# Altium integrated library TI Amplifiers and Linear Operational Amplifier Precision Amplifier Part One.IntLib: 2299 symbols (part 2 of 85)
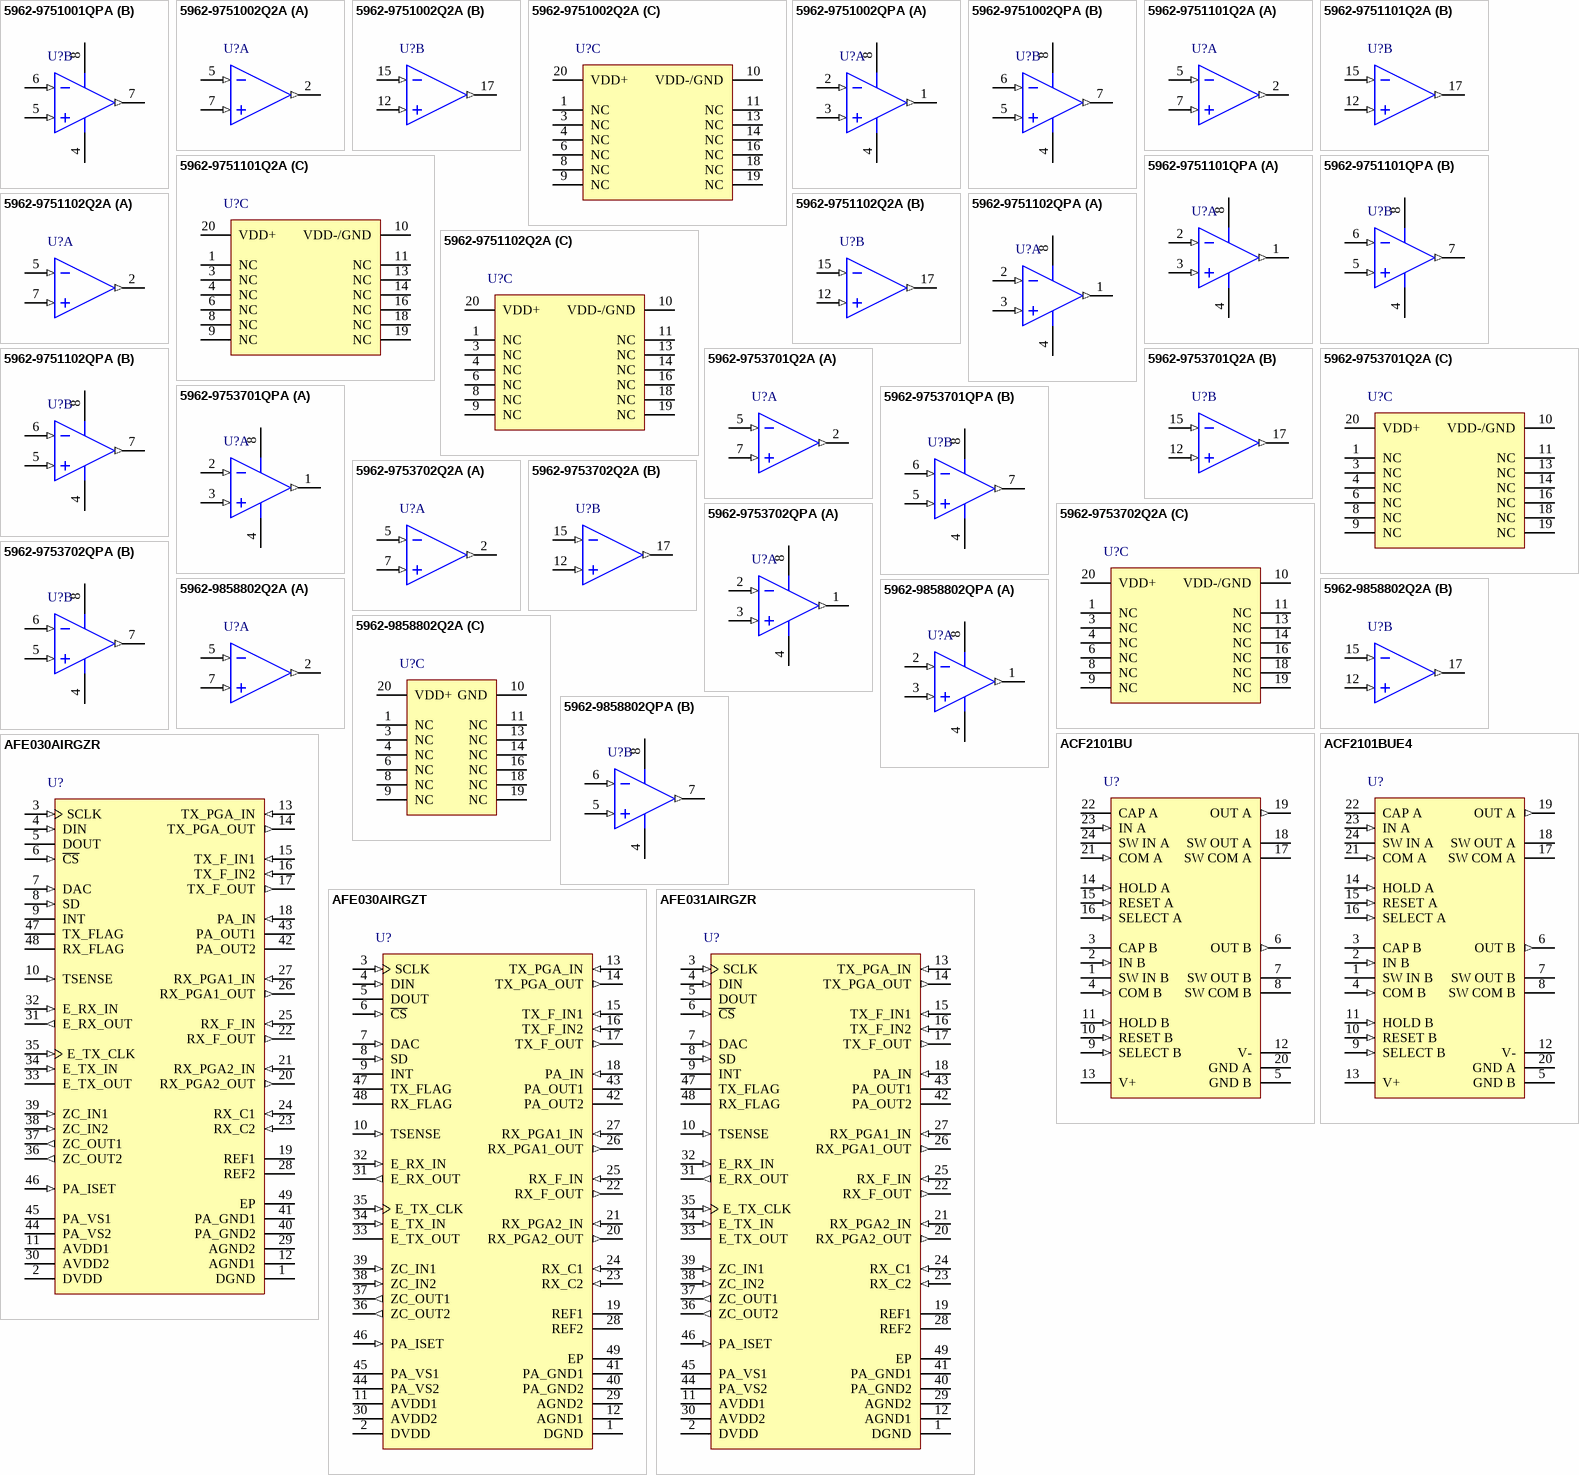
[diagram p125: symbols 5962-9751001QPA to AFE031AIRGZR]

## ACF2101BUE4
designator U?
Low Noise, Dual Switched Integrator, 14.5 to 36 V, -40 to 125 degC, 24-pin SOIC (DW24), Green (RoHS & no Sb/Br); Manufacturer: Texas Instruments; PartNumber: ACF2101BUE4; GBW(Typ)(MHz): 2; Iq per channel(Max)(mA): 15; Offset Drift(Typ)(uV/C): 1; Packing: TUBE; Rating: Catalog; Slew Rate(Typ)(V/us): 3; Sub Family: Precision Amplifier; Total Supply Voltage(Max)(+5V is 5, +/-5V is 10): 36; Total Supply Voltage(Min)(+5V is 5, +/-5V is 10): 14.5; DatasheetVersion: SBFS003; PackageVersion: 4040000-5/G, 01/2011; PackageReference: DW24; PackageDescription: 24-Pin Plastic Small Outline, Body 15.4 x 7.5 mm, Pitch 1.27 mm; Supplier 1: Digi-Key; Supplier Part Number 1: ACF2101BUE4-ND; Supplier 2: Farnell; Supplier Part Number 2: 1206857; Supplier 3: Newark; Supplier Part Number 3: 96K6098; Supplier 4: Mouser; Supplier Part Number 4: 595-ACF2101BUE4; Eco-Plan: Green (RoHS & no Sb/Br); Number of Channels: 2; Vio (25C)(Max)(mV): 2; Mounting Technology: Surface Mount; Code_JEDEC: MS-013; ComponentLink1Description: Manufacturer URL; ComponentLink1URL: http://www.ti.com/; ComponentLink2Description: Datasheet; ComponentLink2URL: http://www.ti.com/lit/ds/symlink/acf2101.pdf; ComponentLink3Description: Package Specification; ComponentLink3URL: http://www.ti.com/litv/pdf/mpds174a
footprint TI-DW24_N (SOIC, 24-Leads, Body 15.4x7.5mm, Pitch 1.27mm, IPC Medium Density)
footprint TI-DW24_L (SOIC, 24-Leads, Body 15.4x7.5mm, Pitch 1.27mm, IPC High Density)
footprint TI-DW24_M (SOIC, 24-Leads, Body 15.4x7.5mm, Pitch 1.27mm, IPC Low Density)
pins: 1 SW IN B "B Switch-In", 2 IN B (in) "B In", 3 CAP B "B  Cap", 4 COM B (in) "B Common", 5 GND B (power) "B Ground", 6 OUT B (out) "B Out", 7 SW OUT B "B Switch-Out", 8 SW COM B "B Switch-Common", 9 SELECT B (in) "B Select", 10 RESET B (in) "B Reset", 11 HOLD B (in) "B Hold", 12 V- (power), 13 V+ (power), 14 HOLD A (in) "A Hold", 15 RESET A (in) "A Reset", 16 SELECT A (in) "A Select", 17 SW COM A "A Switch-Common", 18 SW OUT A "A Switch-Out", 19 OUT A (out) "A  Out", 20 GND A (power) "A Ground", 21 COM A (in) "A Common", 22 CAP A "A  Cap", 23 IN A (in) "A In", 24 SW IN A "A Switch-In"

## AFE030AIRGZR
designator U?
Powerline Communications Analog Front-End, 7 to 26 V, -40 to 125 degC, 48-pin QFN (RGZ48), Green (RoHS & no Sb/Br); Manufacturer: Texas Instruments; PartNumber: AFE030AIRGZR; GBW(Typ)(MHz): 4.4; Iq per channel(Max)(mA): 60.3; Packing: LARGE T&R; Rating: Catalog; Slew Rate(Typ)(V/us): 19; Sub Family: Precision Amplifier; Total Supply Voltage(Max)(+5V is 5, +/-5V is 10): 26; Total Supply Voltage(Min)(+5V is 5, +/-5V is 10): 7; DatasheetVersion: SBOS588A; PackageVersion: 4204101/F, 06/2011; PackageReference: RGZ48-4100X4100TP; PackageDescription: 48-Pin Plastic Flat Pack, Body 7 x 7 mm, Pitch 0.5 mm; Supplier 1: Digi-Key; Supplier Part Number 1: AFE030AIRGZR-ND; Supplier 2: Newark; Supplier Part Number 2: 82T3713; Supplier 3: Mouser; Supplier Part Number 3: 595-AFE030AIRGZR; Eco-Plan: Green (RoHS & no Sb/Br); Mounting Technology: Surface Mount; Code_JEDEC: MO-220; ComponentLink1Description: Manufacturer URL; ComponentLink1URL: http://www.ti.com/; ComponentLink2Description: Datasheet; ComponentLink2URL: http://www.ti.com/lit/ds/symlink/afe030.pdf; ComponentLink3Description: Package Specification; ComponentLink3URL: http://www.ti.com/lit/ds/symlink/sn75dp139.pdf
footprint TI-RGZ48-4100X4100TP_V (QFN, 48-Leads, Body 7x7mm, Pitch 0.5mm, Thermal Pad 4.1x4.1mm)
pins: 1 DGND (power) "Digital ground", 2 DVDD (power) "Digital supply", 3 SCLK (in) "SPI serial clock", 4 DIN (in) "SPI digital input", 5 DOUT (hiz) "SPI digital output", 6 ~{CS} (in) "SPI digital chip select", 7 DAC (in) "DAC mode select", 8 SD (in) "System shutdown", 9 INT (oc) "Interrupt on overcurrent or thermal limit", 10 TSENSE (in) "Temp sensing diode (anode)", 11 AVDD1 (power) "Analog supply", 12 AGND1 (power) "Analog ground", 13 TX_PGA_IN (in) "Transmit PGA lnput", 14 TX_PGA_OUT (out) "Transmit PGA output", 15 TX_F_IN1 (in) "Transmit filter input 1", 16 TX_F_IN2 (in) "Transmit filter input 2", 17 TX_F_OUT (out) "Transmit filter output", 18 PA_IN (in) "Power Amplifier input", 19 REF1 "Power Amplifier noise reducing capacitor", 20 RX_PGA2_OUT (out) "Receiver PGA(2) output", 21 RX_PGA2_IN (in) "Receiver PGA(2) input", 22 RX_F_OUT (out) "Receiver filter output", 23 RX_C2 (in) "Receiver external frequency select", 24 RX_C1 (in) "Receiver external frequency select", 25 RX_F_IN (in) "Receiver filter input", 26 RX_PGA1_OUT (out) "Receiver PGA(1) output", 27 RX_PGA1_IN (in) "Receiver PGA(1) input", 28 REF2 "Receiver noise reducing capacitor", 29 AGND2 (power) "Analog ground", 30 AVDD2 (power) "Analog supply", 31 E_RX_OUT (out) "Two-wire receiver output", 32 E_RX_IN (in) "Two-wire receiver input", 33 E_TX_OUT (hiz) "Two-wire transmitter output", 34 E_TX_IN (in) "Two-wire transmitter input", 35 E_TX_CLK (in) "Two-wire transmitter clock input", 36 ZC_OUT2 (out) "Zero-crossing detector output", 37 ZC_OUT1 (out) "Zero-crossing detector output", 38 ZC_IN2 (in) "Zero-crossing detector input", 39 ZC_IN1 (in) "Zero-crossing detector input", 40 PA_GND2 (power) "Power amplifier ground", 41 PA_GND1 (power) "Power amplifier ground", 42 PA_OUT2 (hiz) "Power amplifier output", 43 PA_OUT1 (hiz) "Power amplifier output", 44 PA_VS2 (power) "Power amplifier supply", 45 PA_VS1 (power) "Power amplifier supply", 46 PA_ISET (in) "Power amplifier current limit set", 47 TX_FLAG (oc) "Transmitter ready flag", 48 RX_FLAG (oc) "Receiver ready flag", 49 EP (power)

## AFE030AIRGZT
designator U?
Powerline Communications Analog Front-End, 7 to 26 V, -40 to 125 degC, 48-pin QFN (RGZ48), Green (RoHS & no Sb/Br); Manufacturer: Texas Instruments; PartNumber: AFE030AIRGZT; GBW(Typ)(MHz): 4.4; Iq per channel(Max)(mA): 60.3; Packing: SMALL T&R; Rating: Catalog; Slew Rate(Typ)(V/us): 19; Sub Family: Precision Amplifier; Total Supply Voltage(Max)(+5V is 5, +/-5V is 10): 26; Total Supply Voltage(Min)(+5V is 5, +/-5V is 10): 7; DatasheetVersion: SBOS588A; PackageVersion: 4204101/F, 06/2011; PackageReference: RGZ48-4100X4100TP; PackageDescription: 48-Pin Plastic Flat Pack, Body 7 x 7 mm, Pitch 0.5 mm; Supplier 1: Digi-Key; Supplier Part Number 1: 296-30255-2-ND; Supplier 2: Digi-Key; Supplier Part Number 2: 296-30255-1-ND; Supplier 3: Digi-Key; Supplier Part Number 3: 296-30255-6-ND; Supplier 4: Farnell; Supplier Part Number 4: 2093993; Supplier 5: Newark; Supplier Part Number 5: 89T8632; Supplier 6: Newark; Supplier Part Number 6: 82T3714; Supplier 7: Mouser; Supplier Part Number 7: 595-AFE030AIRGZT; Eco-Plan: Green (RoHS & no Sb/Br); Mounting Technology: Surface Mount; Code_JEDEC: MO-220; ComponentLink1Description: Manufacturer URL; ComponentLink1URL: http://www.ti.com/; ComponentLink2Description: Datasheet; ComponentLink2URL: http://www.ti.com/lit/ds/symlink/afe030.pdf; ComponentLink3Description: Package Specification; ComponentLink3URL: http://www.ti.com/lit/ds/symlink/sn75dp139.pdf
footprint TI-RGZ48-4100X4100TP_V (QFN, 48-Leads, Body 7x7mm, Pitch 0.5mm, Thermal Pad 4.1x4.1mm)
pins: 1 DGND (power) "Digital ground", 2 DVDD (power) "Digital supply", 3 SCLK (in) "SPI serial clock", 4 DIN (in) "SPI digital input", 5 DOUT (hiz) "SPI digital output", 6 ~{CS} (in) "SPI digital chip select", 7 DAC (in) "DAC mode select", 8 SD (in) "System shutdown", 9 INT (oc) "Interrupt on overcurrent or thermal limit", 10 TSENSE (in) "Temp sensing diode (anode)", 11 AVDD1 (power) "Analog supply", 12 AGND1 (power) "Analog ground", 13 TX_PGA_IN (in) "Transmit PGA lnput", 14 TX_PGA_OUT (out) "Transmit PGA output", 15 TX_F_IN1 (in) "Transmit filter input 1", 16 TX_F_IN2 (in) "Transmit filter input 2", 17 TX_F_OUT (out) "Transmit filter output", 18 PA_IN (in) "Power Amplifier input", 19 REF1 "Power Amplifier noise reducing capacitor", 20 RX_PGA2_OUT (out) "Receiver PGA(2) output", 21 RX_PGA2_IN (in) "Receiver PGA(2) input", 22 RX_F_OUT (out) "Receiver filter output", 23 RX_C2 (in) "Receiver external frequency select", 24 RX_C1 (in) "Receiver external frequency select", 25 RX_F_IN (in) "Receiver filter input", 26 RX_PGA1_OUT (out) "Receiver PGA(1) output", 27 RX_PGA1_IN (in) "Receiver PGA(1) input", 28 REF2 "Receiver noise reducing capacitor", 29 AGND2 (power) "Analog ground", 30 AVDD2 (power) "Analog supply", 31 E_RX_OUT (out) "Two-wire receiver output", 32 E_RX_IN (in) "Two-wire receiver input", 33 E_TX_OUT (hiz) "Two-wire transmitter output", 34 E_TX_IN (in) "Two-wire transmitter input", 35 E_TX_CLK (in) "Two-wire transmitter clock input", 36 ZC_OUT2 (out) "Zero-crossing detector output", 37 ZC_OUT1 (out) "Zero-crossing detector output", 38 ZC_IN2 (in) "Zero-crossing detector input", 39 ZC_IN1 (in) "Zero-crossing detector input", 40 PA_GND2 (power) "Power amplifier ground", 41 PA_GND1 (power) "Power amplifier ground", 42 PA_OUT2 (hiz) "Power amplifier output", 43 PA_OUT1 (hiz) "Power amplifier output", 44 PA_VS2 (power) "Power amplifier supply", 45 PA_VS1 (power) "Power amplifier supply", 46 PA_ISET (in) "Power amplifier current limit set", 47 TX_FLAG (oc) "Transmitter ready flag", 48 RX_FLAG (oc) "Receiver ready flag", 49 EP (power)

## AFE031AIRGZR
designator U?
Powerline Communications Analog Front End, 7 to 26 V, -40 to 125 degC, 48-pin QFN (RGZ48), Green (RoHS & no Sb/Br); Manufacturer: Texas Instruments; PartNumber: AFE031AIRGZR; GBW(Typ)(MHz): 4.4; Iq per channel(Max)(mA): 60.3; Packing: LARGE T&R; Rating: Catalog; Slew Rate(Typ)(V/us): 19; Sub Family: Precision Amplifier; Total Supply Voltage(Max)(+5V is 5, +/-5V is 10): 26; Total Supply Voltage(Min)(+5V is 5, +/-5V is 10): 7; DatasheetVersion: SBOS531D; PackageVersion: 4204101/F, 06/2011; PackageReference: RGZ48-4100X4100TP; PackageDescription: 48-Pin Plastic Flat Pack, Body 7 x 7 mm, Pitch 0.5 mm; Supplier 1: Digi-Key; Supplier Part Number 1: AFE031AIRGZR-ND; Supplier 2: Newark; Supplier Part Number 2: 67T8942; Supplier 3: Mouser; Supplier Part Number 3: 595-AFE031AIRGZR; Eco-Plan: Green (RoHS & no Sb/Br); Mounting Technology: Surface Mount; Code_JEDEC: MO-220; ComponentLink1Description: Manufacturer URL; ComponentLink1URL: http://www.ti.com/; ComponentLink2Description: Datasheet; ComponentLink2URL: http://www.ti.com/lit/ds/symlink/afe031.pdf; ComponentLink3Description: Package Specification; ComponentLink3URL: http://www.ti.com/lit/ds/symlink/sn75dp139.pdf
footprint TI-RGZ48-4100X4100TP_V (QFN, 48-Leads, Body 7x7mm, Pitch 0.5mm, Thermal Pad 4.1x4.1mm)
pins: 1 DGND (power) "Digital ground", 2 DVDD (power) "Digital supply", 3 SCLK (in) "SPI serial clock", 4 DIN (in) "SPI digital input", 5 DOUT (hiz) "SPI digital output", 6 ~{CS} (in) "SPI digital chip select", 7 DAC (in) "DAC mode select", 8 SD (in) "System shutdown", 9 INT (oc) "Interrupt on overcurrent or thermal limit", 10 TSENSE (in) "Temp sensing diode (anode)", 11 AVDD1 (power) "Analog supply", 12 AGND1 (power) "Analog ground", 13 TX_PGA_IN (in) "Transmit PGA lnput", 14 TX_PGA_OUT (out) "Transmit PGA output", 15 TX_F_IN1 (in) "Transmit filter input 1", 16 TX_F_IN2 (in) "Transmit filter input 2", 17 TX_F_OUT (out) "Transmit filter output", 18 PA_IN (in) "Power Amplifier input", 19 REF1 "Power Amplifier noise reducing capacitor", 20 RX_PGA2_OUT (out) "Receiver PGA(2) output", 21 RX_PGA2_IN (in) "Receiver PGA(2) input", 22 RX_F_OUT (out) "Receiver filter output", 23 RX_C2 (in) "Receiver external frequency select", 24 RX_C1 (in) "Receiver external frequency select", 25 RX_F_IN (in) "Receiver filter input", 26 RX_PGA1_OUT (out) "Receiver PGA(1) output", 27 RX_PGA1_IN (in) "Receiver PGA(1) input", 28 REF2 "Receiver noise reducing capacitor", 29 AGND2 (power) "Analog ground", 30 AVDD2 (power) "Analog supply", 31 E_RX_OUT (out) "Two-wire receiver output", 32 E_RX_IN (in) "Two-wire receiver input", 33 E_TX_OUT (hiz) "Two-wire transmitter output", 34 E_TX_IN (in) "Two-wire transmitter input", 35 E_TX_CLK (in) "Two-wire transmitter clock input", 36 ZC_OUT2 (out) "Zero-crossing detector output", 37 ZC_OUT1 (out) "Zero-crossing detector output", 38 ZC_IN2 (in) "Zero-crossing detector input", 39 ZC_IN1 (in) "Zero-crossing detector input", 40 PA_GND2 (power) "Power amplifier ground", 41 PA_GND1 (power) "Power amplifier ground", 42 PA_OUT2 (hiz) "Power amplifier output", 43 PA_OUT1 (hiz) "Power amplifier output", 44 PA_VS2 (power) "Power amplifier supply", 45 PA_VS1 (power) "Power amplifier supply", 46 PA_ISET (in) "Power amplifier current limit set", 47 TX_FLAG (oc) "Transmitter ready flag", 48 RX_FLAG (oc) "Receiver ready flag", 49 EP (power)

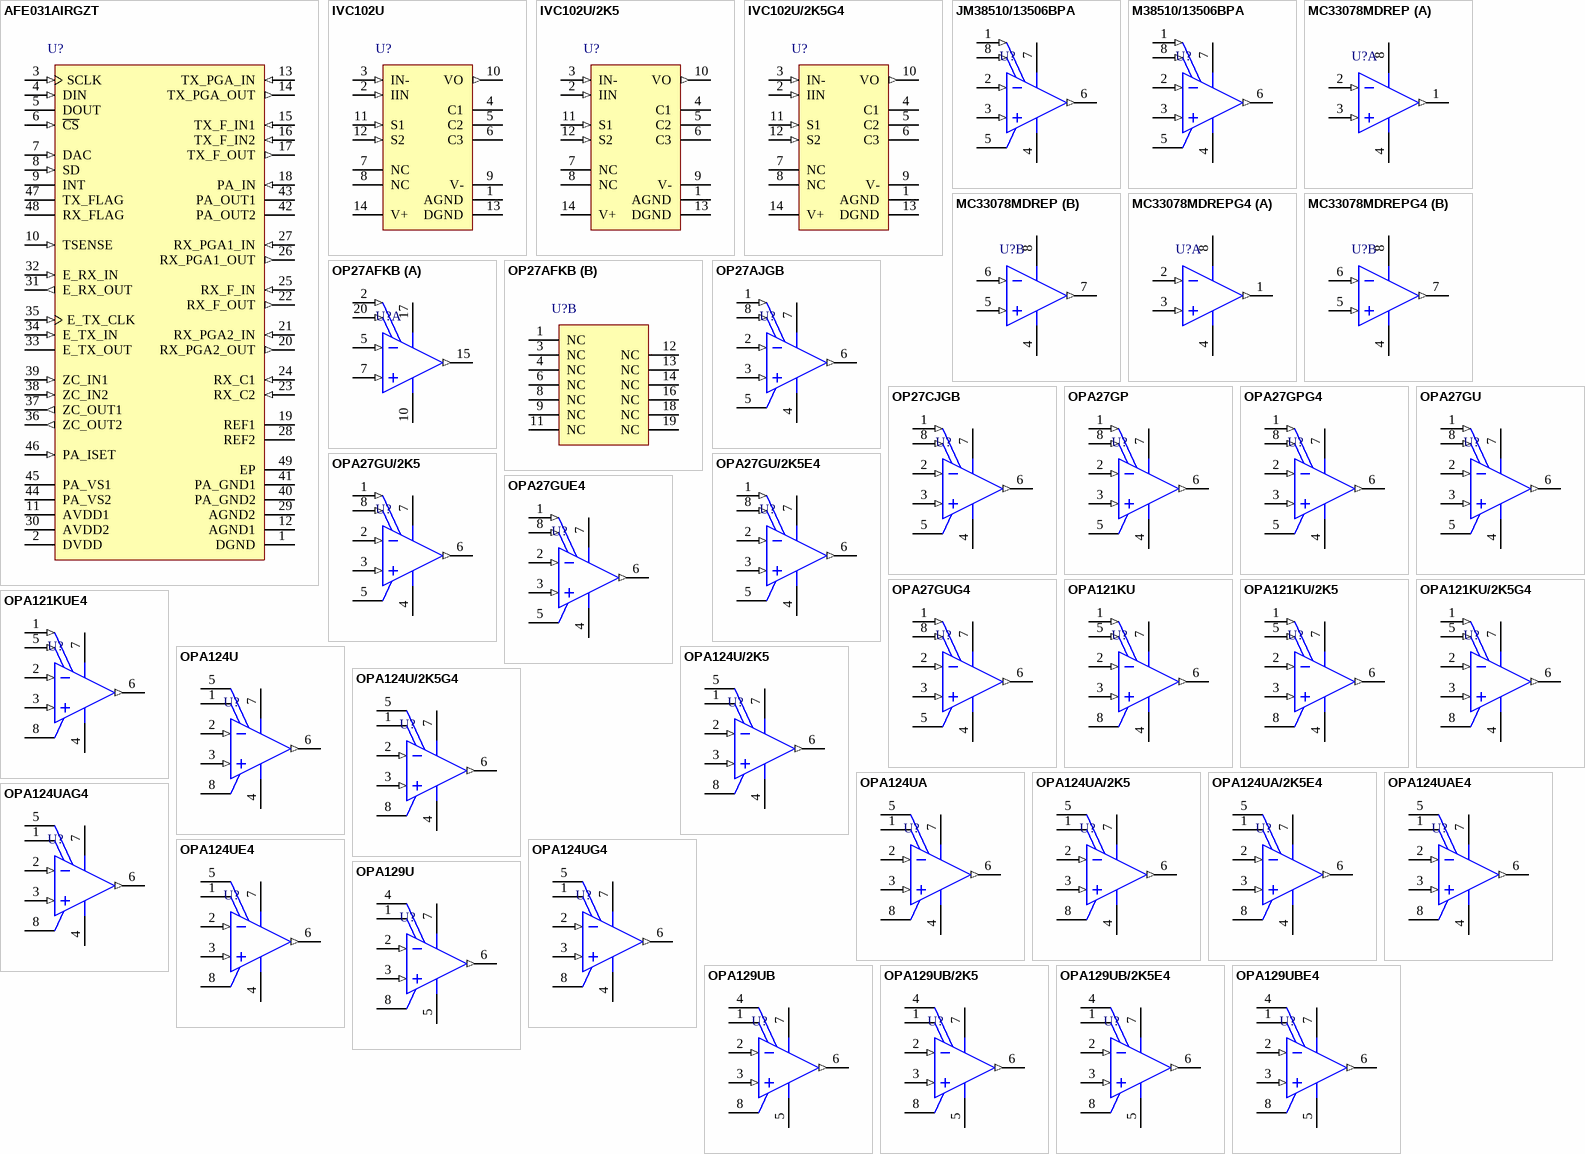
[diagram p2: symbols AFE031AIRGZT to OPA129UBE4]

## AFE031AIRGZT
designator U?
Powerline Communications Analog Front End, 7 to 26 V, -40 to 125 degC, 48-pin QFN (RGZ48), Green (RoHS & no Sb/Br); Manufacturer: Texas Instruments; PartNumber: AFE031AIRGZT; GBW(Typ)(MHz): 4.4; Iq per channel(Max)(mA): 60.3; Packing: SMALL T&R; Rating: Catalog; Slew Rate(Typ)(V/us): 19; Sub Family: Precision Amplifier; Total Supply Voltage(Max)(+5V is 5, +/-5V is 10): 26; Total Supply Voltage(Min)(+5V is 5, +/-5V is 10): 7; DatasheetVersion: SBOS531D; PackageVersion: 4204101/F, 06/2011; PackageReference: RGZ48-4100X4100TP; PackageDescription: 48-Pin Plastic Flat Pack, Body 7 x 7 mm, Pitch 0.5 mm; Supplier 1: Digi-Key; Supplier Part Number 1: 296-29692-2-ND; Supplier 2: Digi-Key; Supplier Part Number 2: 296-29692-1-ND; Supplier 3: Digi-Key; Supplier Part Number 3: 296-29692-6-ND; Supplier 4: Farnell; Supplier Part Number 4: 2082416; Supplier 5: Newark; Supplier Part Number 5: 91T4739; Supplier 6: Newark; Supplier Part Number 6: 67T8943; Supplier 7: Mouser; Supplier Part Number 7: 595-AFE031AIRGZT; Eco-Plan: Green (RoHS & no Sb/Br); Mounting Technology: Surface Mount; Code_JEDEC: MO-220; ComponentLink1Description: Manufacturer URL; ComponentLink1URL: http://www.ti.com/; ComponentLink2Description: Datasheet; ComponentLink2URL: http://www.ti.com/lit/ds/symlink/afe031.pdf; ComponentLink3Description: Package Specification; ComponentLink3URL: http://www.ti.com/lit/ds/symlink/sn75dp139.pdf
footprint TI-RGZ48-4100X4100TP_V (QFN, 48-Leads, Body 7x7mm, Pitch 0.5mm, Thermal Pad 4.1x4.1mm)
pins: 1 DGND (power) "Digital ground", 2 DVDD (power) "Digital supply", 3 SCLK (in) "SPI serial clock", 4 DIN (in) "SPI digital input", 5 DOUT (hiz) "SPI digital output", 6 ~{CS} (in) "SPI digital chip select", 7 DAC (in) "DAC mode select", 8 SD (in) "System shutdown", 9 INT (oc) "Interrupt on overcurrent or thermal limit", 10 TSENSE (in) "Temp sensing diode (anode)", 11 AVDD1 (power) "Analog supply", 12 AGND1 (power) "Analog ground", 13 TX_PGA_IN (in) "Transmit PGA lnput", 14 TX_PGA_OUT (out) "Transmit PGA output", 15 TX_F_IN1 (in) "Transmit filter input 1", 16 TX_F_IN2 (in) "Transmit filter input 2", 17 TX_F_OUT (out) "Transmit filter output", 18 PA_IN (in) "Power Amplifier input", 19 REF1 "Power Amplifier noise reducing capacitor", 20 RX_PGA2_OUT (out) "Receiver PGA(2) output", 21 RX_PGA2_IN (in) "Receiver PGA(2) input", 22 RX_F_OUT (out) "Receiver filter output", 23 RX_C2 (in) "Receiver external frequency select", 24 RX_C1 (in) "Receiver external frequency select", 25 RX_F_IN (in) "Receiver filter input", 26 RX_PGA1_OUT (out) "Receiver PGA(1) output", 27 RX_PGA1_IN (in) "Receiver PGA(1) input", 28 REF2 "Receiver noise reducing capacitor", 29 AGND2 (power) "Analog ground", 30 AVDD2 (power) "Analog supply", 31 E_RX_OUT (out) "Two-wire receiver output", 32 E_RX_IN (in) "Two-wire receiver input", 33 E_TX_OUT (hiz) "Two-wire transmitter output", 34 E_TX_IN (in) "Two-wire transmitter input", 35 E_TX_CLK (in) "Two-wire transmitter clock input", 36 ZC_OUT2 (out) "Zero-crossing detector output", 37 ZC_OUT1 (out) "Zero-crossing detector output", 38 ZC_IN2 (in) "Zero-crossing detector input", 39 ZC_IN1 (in) "Zero-crossing detector input", 40 PA_GND2 (power) "Power amplifier ground", 41 PA_GND1 (power) "Power amplifier ground", 42 PA_OUT2 (hiz) "Power amplifier output", 43 PA_OUT1 (hiz) "Power amplifier output", 44 PA_VS2 (power) "Power amplifier supply", 45 PA_VS1 (power) "Power amplifier supply", 46 PA_ISET (in) "Power amplifier current limit set", 47 TX_FLAG (oc) "Transmitter ready flag", 48 RX_FLAG (oc) "Receiver ready flag", 49 EP (power)

## IVC102U
designator U?
Precision Switched Integrator Transimpedance Amplifier, 9.5 to 36 V, -40 to 85 degC, 14-pin SOIC (D14), Green (RoHS & no Sb/Br); Manufacturer: Texas Instruments; PartNumber: IVC102U; GBW(Typ)(MHz): 2; IIB(Max)(pA): 0.75; Number of Channels: 1; Offset Drift(Typ)(uV/C): 5; Packing: TUBE; Rating: Catalog; Slew Rate(Typ)(V/us): 3; Sub Family: Low Noise Amp (<=10nV/rtHz), Precision Amplifier; Total Supply Voltage(Max)(+5V is 5, +/-5V is 10): 36; Total Supply Voltage(Min)(+5V is 5, +/-5V is 10): 9.5; DatasheetVersion: SBFS009; PackageVersion: 4040047-5/M, 06/2011; PackageReference: D14; PackageDescription: 14-Pin Plastic Small Outline, Body 8.65 x 3.9 mm, Pitch 1.27 mm; Supplier 1: Digi-Key; Supplier Part Number 1: IVC102U-ND; Supplier 2: Farnell; Supplier Part Number 2: 1212427; Supplier 3: Newark; Supplier Part Number 3: 03P0868; Supplier 4: Mouser; Supplier Part Number 4: 595-IVC102U; Eco-Plan: Green (RoHS & no Sb/Br); Vio (25C)(Max)(mV): 5; Mounting Technology: Surface Mount; Code_JEDEC: MS-012; ComponentLink1Description: Manufacturer URL; ComponentLink1URL: http://www.ti.com/; ComponentLink2Description: Datasheet; ComponentLink2URL: http://www.ti.com/lit/ds/symlink/ivc102.pdf; ComponentLink3Description: Package Specification; ComponentLink3URL: http://www.ti.com/lit/ml/mpds177g/mpds177g.pdf
footprint TI-D14_N (SOIC, 14-Leads, Body 8.65x3.9mm, Pitch 1.27mm, IPC Medium Density)
footprint TI-D14_L (SOIC, 14-Leads, Body 8.65x3.9mm, Pitch 1.27mm, IPC High Density)
footprint TI-D14_M (SOIC, 14-Leads, Body 8.65x3.9mm, Pitch 1.27mm, IPC Low Density)
pins: 1 AGND (power), 2 IIN (in), 3 IN- (in), 4 C1, 5 C2, 6 C3, 7 NC, 8 NC, 9 V- (power), 10 VO (out), 11 S1 (in), 12 S2 (in), 13 DGND (power), 14 V+ (power)

## IVC102U/2K5
designator U?
Precision Switched Integrator Transimpedance Amplifier, 9.5 to 36 V, -40 to 85 degC, 14-pin SOIC (D14), Green (RoHS & no Sb/Br); Manufacturer: Texas Instruments; PartNumber: IVC102U/2K5; GBW(Typ)(MHz): 2; IIB(Max)(pA): 0.75; Number of Channels: 1; Offset Drift(Typ)(uV/C): 5; Packing: LARGE T&R; Rating: Catalog; Slew Rate(Typ)(V/us): 3; Sub Family: Low Noise Amp (<=10nV/rtHz), Precision Amplifier; Total Supply Voltage(Max)(+5V is 5, +/-5V is 10): 36; Total Supply Voltage(Min)(+5V is 5, +/-5V is 10): 9.5; DatasheetVersion: SBFS009; PackageVersion: 4040047-5/M, 06/2011; PackageReference: D14; PackageDescription: 14-Pin Plastic Small Outline, Body 8.65 x 3.9 mm, Pitch 1.27 mm; Supplier 1: Digi-Key; Supplier Part Number 1: IVC102U/2K5-ND; Supplier 2: Newark; Supplier Part Number 2: 75C0489; Supplier 3: Mouser; Supplier Part Number 3: 595-IVC102U/2K5; Eco-Plan: Green (RoHS & no Sb/Br); Vio (25C)(Max)(mV): 5; Mounting Technology: Surface Mount; Code_JEDEC: MS-012; ComponentLink1Description: Manufacturer URL; ComponentLink1URL: http://www.ti.com/; ComponentLink2Description: Datasheet; ComponentLink2URL: http://www.ti.com/lit/ds/symlink/ivc102.pdf; ComponentLink3Description: Package Specification; ComponentLink3URL: http://www.ti.com/lit/ml/mpds177g/mpds177g.pdf
footprint TI-D14_N (SOIC, 14-Leads, Body 8.65x3.9mm, Pitch 1.27mm, IPC Medium Density)
footprint TI-D14_L (SOIC, 14-Leads, Body 8.65x3.9mm, Pitch 1.27mm, IPC High Density)
footprint TI-D14_M (SOIC, 14-Leads, Body 8.65x3.9mm, Pitch 1.27mm, IPC Low Density)
pins: 1 AGND (power), 2 IIN (in), 3 IN- (in), 4 C1, 5 C2, 6 C3, 7 NC, 8 NC, 9 V- (power), 10 VO (out), 11 S1 (in), 12 S2 (in), 13 DGND (power), 14 V+ (power)

## IVC102U/2K5G4
designator U?
Precision Switched Integrator Transimpedance Amplifier, 9.5 to 36 V, -40 to 85 degC, 14-pin SOIC (D14), Green (RoHS & no Sb/Br); Manufacturer: Texas Instruments; PartNumber: IVC102U/2K5G4; GBW(Typ)(MHz): 2; IIB(Max)(pA): 0.75; Number of Channels: 1; Offset Drift(Typ)(uV/C): 5; Packing: LARGE T&R; Rating: Catalog; Slew Rate(Typ)(V/us): 3; Sub Family: Low Noise Amp (<=10nV/rtHz), Precision Amplifier; Total Supply Voltage(Max)(+5V is 5, +/-5V is 10): 36; Total Supply Voltage(Min)(+5V is 5, +/-5V is 10): 9.5; DatasheetVersion: SBFS009; PackageVersion: 4040047-5/M, 06/2011; PackageReference: D14; PackageDescription: 14-Pin Plastic Small Outline, Body 8.65 x 3.9 mm, Pitch 1.27 mm; Supplier 1: Digi-Key; Supplier Part Number 1: IVC102U/2K5G4-ND; Supplier 2: Newark; Supplier Part Number 2: 28M6205; Supplier 3: Mouser; Supplier Part Number 3: 595-IVC102U/2K5G4; Eco-Plan: Green (RoHS & no Sb/Br); Vio (25C)(Max)(mV): 5; Mounting Technology: Surface Mount; Code_JEDEC: MS-012; ComponentLink1Description: Manufacturer URL; ComponentLink1URL: http://www.ti.com/; ComponentLink2Description: Datasheet; ComponentLink2URL: http://www.ti.com/lit/ds/symlink/ivc102.pdf; ComponentLink3Description: Package Specification; ComponentLink3URL: http://www.ti.com/lit/ml/mpds177g/mpds177g.pdf
footprint TI-D14_N (SOIC, 14-Leads, Body 8.65x3.9mm, Pitch 1.27mm, IPC Medium Density)
footprint TI-D14_L (SOIC, 14-Leads, Body 8.65x3.9mm, Pitch 1.27mm, IPC High Density)
footprint TI-D14_M (SOIC, 14-Leads, Body 8.65x3.9mm, Pitch 1.27mm, IPC Low Density)
pins: 1 AGND (power), 2 IIN (in), 3 IN- (in), 4 C1, 5 C2, 6 C3, 7 NC, 8 NC, 9 V- (power), 10 VO (out), 11 S1 (in), 12 S2 (in), 13 DGND (power), 14 V+ (power)

## JM38510/13506BPA
designator U?
Low-Noise Precision High-Speed Operational Amplifier, 8 to 44 V, -55 to 125 degC, 8-pin DIP (JG8); Manufacturer: Texas Instruments; PartNumber: JM38510/13506BPA; CMRR(Min)(dB): 100; GBW(Typ)(MHz): 8; IIB(Max)(pA): 80000; Number of Channels: 1; Offset Drift(Typ)(uV/C): 0.4; Packing: TUBE; Rating: Military; Slew Rate(Typ)(V/us): 2.8; Sub Family: High Supply Voltage Amplifier (>=30V), Low Noise Amp (<=10nV/rtHz), Low Offset Voltage Amplifier (<=500uV), Precision Amplifier; Total Supply Voltage(Max)(+5V is 5, +/-5V is 10): 44; Vio (25C)(Max)(mV): 0.1; DatasheetVersion: SLOS100E; PackageVersion: 4040107/C, 08/1996; PackageReference: JG8; PackageDescription: 8-Pin Ceramic, Glass In-Line, Body 9.58 x 6.665 mm, Pitch 2.54 mm; Total Supply Voltage(Min)(+5V is 5, +/-5V is 10): 8; Mounting Technology: Through Hole; ComponentLink1Description: Manufacturer URL; ComponentLink1URL: http://www.ti.com/; ComponentLink2Description: Datasheet; ComponentLink2URL: http://www.ti.com/lit/ds/symlink/op27.pdf; ComponentLink3Description: Package Specification; ComponentLink3URL: http://www.ti.com/litv/pdf/mcer001a
footprint TI-JG8 (DIP, 8-Leads, Body 10.15x7.1mm, Pitch 2.54mm)
pins: 1 VIOTRIM (in), 2 IN- (in), 3 IN+ (in), 4 VCC- (power), 5 NC, 6 OUT (out), 7 VCC+ (power), 8 VIOTRIM (in)

## M38510/13506BPA
designator U?
Low-Noise Precision High-Speed Operational Amplifier, 8 to 44 V, -55 to 125 degC, 8-pin DIP (JG8); Manufacturer: Texas Instruments; PartNumber: M38510/13506BPA; CMRR(Min)(dB): 100; GBW(Typ)(MHz): 8; IIB(Max)(pA): 80000; Number of Channels: 1; Offset Drift(Typ)(uV/C): 0.4; Packing: TUBE; Rating: Military; Slew Rate(Typ)(V/us): 2.8; Sub Family: High Supply Voltage Amplifier (>=30V), Low Noise Amp (<=10nV/rtHz), Low Offset Voltage Amplifier (<=500uV), Precision Amplifier; Total Supply Voltage(Max)(+5V is 5, +/-5V is 10): 44; Vio (25C)(Max)(mV): 0.1; DatasheetVersion: SLOS100E; PackageVersion: 4040107/C, 08/1996; PackageReference: JG8; PackageDescription: 8-Pin Ceramic, Glass In-Line, Body 9.58 x 6.665 mm, Pitch 2.54 mm; Total Supply Voltage(Min)(+5V is 5, +/-5V is 10): 8; Mounting Technology: Through Hole; ComponentLink1Description: Manufacturer URL; ComponentLink1URL: http://www.ti.com/; ComponentLink2Description: Datasheet; ComponentLink2URL: http://www.ti.com/lit/ds/symlink/op27.pdf; ComponentLink3Description: Package Specification; ComponentLink3URL: http://www.ti.com/litv/pdf/mcer001a
footprint TI-JG8 (DIP, 8-Leads, Body 10.15x7.1mm, Pitch 2.54mm)
pins: 1 VIOTRIM (in), 2 IN- (in), 3 IN+ (in), 4 VCC- (power), 5 NC, 6 OUT (out), 7 VCC+ (power), 8 VIOTRIM (in)

## MC33078MDREP
designator U?
Enhanced Product Dual High-Speed Low-Noise Operational Amplifier, 10 to 36 V, -55 to 125 degC, 8-pin SOIC (D8), Green (RoHS & no Sb/Br); Manufacturer: Texas Instruments; PartNumber: MC33078MDREP; CMRR(Min)(dB): 80; GBW(Typ)(MHz): 16; IIB(Max)(pA): 750000; Iq per channel(Max)(mA): 2.5; Number of Channels: 2; Packing: LARGE T&R; Rating: HiRel Enhanced Product; Slew Rate(Typ)(V/us): 7; Sub Family: High Output Current Amplifier (>=50mA), Low Noise Amp (<=10nV/rtHz), Precision Amplifier; Total Supply Voltage(Max)(+5V is 5, +/-5V is 10): 36; Total Supply Voltage(Min)(+5V is 5, +/-5V is 10): 10; DatasheetVersion: SLOS495; PackageVersion: 4040047-3/M, 06/2011; PackageReference: D8; PackageDescription: 8-Pin Plastic Small Outline, Body 4.9 x 3.9 mm, Pitch 1.27 mm; Supplier 1: Digi-Key; Supplier Part Number 1: 296-22183-2-ND; Supplier 2: Digi-Key; Supplier Part Number 2: 296-22183-1-ND; Supplier 3: Digi-Key; Supplier Part Number 3: 296-22183-6-ND; Supplier 4: Newark; Supplier Part Number 4: 45M9653; Supplier 5: Mouser; Supplier Part Number 5: 595-MC33078MDREP; Eco-Plan: Green (RoHS & no Sb/Br); Offset Drift(Typ)(uV/C): 2; Vio (25C)(Max)(mV): 2; Mounting Technology: Surface Mount; Code_JEDEC: MS-012; ComponentLink1Description: Manufacturer URL; ComponentLink1URL: http://www.ti.com/; ComponentLink2Description: Datasheet; ComponentLink2URL: http://www.ti.com/lit/ds/symlink/mc33078-ep.pdf; ComponentLink3Description: Package Specification; ComponentLink3URL: http://www.ti.com/litv/pdf/msoi002j
footprint TI-D8_N (SOIC, 8-Leads, Body 4.9x3.9mm, Pitch 1.27mm, IPC Medium Density)
footprint TI-D8_L (SOIC, 8-Leads, Body 4.9x3.9mm, Pitch 1.27mm, IPC High Density)
footprint TI-D8_M (SOIC, 8-Leads, Body 4.9x3.9mm, Pitch 1.27mm, IPC Low Density)
pins on every part: 4 VCC- (power), 8 VCC+ (power)
part A pins: 1 OUT1 (out), 2 IN1- (in), 3 IN1+ (in)
part B pins: 5 IN2+ (in), 6 IN2- (in), 7 OUT2 (out)

## MC33078MDREPG4
designator U?
Enhanced Product Dual High-Speed Low-Noise Operational Amplifier, 10 to 36 V, -55 to 125 degC, 8-pin SOIC (D8), Green (RoHS & no Sb/Br); Manufacturer: Texas Instruments; PartNumber: MC33078MDREPG4; CMRR(Min)(dB): 80; GBW(Typ)(MHz): 16; IIB(Max)(pA): 750000; Iq per channel(Max)(mA): 2.5; Number of Channels: 2; Packing: LARGE T&R; Rating: HiRel Enhanced Product; Slew Rate(Typ)(V/us): 7; Sub Family: High Output Current Amplifier (>=50mA), Low Noise Amp (<=10nV/rtHz), Precision Amplifier; Total Supply Voltage(Max)(+5V is 5, +/-5V is 10): 36; Total Supply Voltage(Min)(+5V is 5, +/-5V is 10): 10; DatasheetVersion: SLOS495; PackageVersion: 4040047-3/M, 06/2011; PackageReference: D8; PackageDescription: 8-Pin Plastic Small Outline, Body 4.9 x 3.9 mm, Pitch 1.27 mm; Supplier 1: Digi-Key; Supplier Part Number 1: MC33078MDREPG4-ND; Supplier 2: Mouser; Supplier Part Number 2: 595-MC33078MDREPG4; Eco-Plan: Green (RoHS & no Sb/Br); Offset Drift(Typ)(uV/C): 2; Vio (25C)(Max)(mV): 2; Mounting Technology: Surface Mount; Code_JEDEC: MS-012; ComponentLink1Description: Manufacturer URL; ComponentLink1URL: http://www.ti.com/; ComponentLink2Description: Datasheet; ComponentLink2URL: http://www.ti.com/lit/ds/symlink/mc33078-ep.pdf; ComponentLink3Description: Package Specification; ComponentLink3URL: http://www.ti.com/litv/pdf/msoi002j
footprint TI-D8_N (SOIC, 8-Leads, Body 4.9x3.9mm, Pitch 1.27mm, IPC Medium Density)
footprint TI-D8_L (SOIC, 8-Leads, Body 4.9x3.9mm, Pitch 1.27mm, IPC High Density)
footprint TI-D8_M (SOIC, 8-Leads, Body 4.9x3.9mm, Pitch 1.27mm, IPC Low Density)
pins on every part: 4 VCC- (power), 8 VCC+ (power)
part A pins: 1 OUT1 (out), 2 IN1- (in), 3 IN1+ (in)
part B pins: 5 IN2+ (in), 6 IN2- (in), 7 OUT2 (out)

## OP27AFKB
designator U?
Low-Noise Precision High-Speed Operational Amplifier, 8 to 44 V, -55 to 125 degC, 20-pin LCC (FK20); Manufacturer: Texas Instruments; PartNumber: OP27AFKB; CMRR(Min)(dB): 114; GBW(Typ)(MHz): 8; IIB(Max)(pA): 40000; Number of Channels: 1; Offset Drift(Typ)(uV/C): 0.2; Packing: TUBE; Rating: Military; Slew Rate(Typ)(V/us): 2.8; Sub Family: High Supply Voltage Amplifier (>=30V), Low Noise Amp (<=10nV/rtHz), Low Offset Voltage Amplifier (<=500uV), Precision Amplifier; Total Supply Voltage(Max)(+5V is 5, +/-5V is 10): 44; Vio (25C)(Max)(mV): 0.025; DatasheetVersion: SLOS100E; PackageVersion: 4040140/D, 01/2011; PackageReference: FK20; PackageDescription: 20-Pin Ceramic, Metal Chip Carrier, Body 8.89 x 8.89 mm, Pitch 1.27 mm; Total Supply Voltage(Min)(+5V is 5, +/-5V is 10): 8; Mounting Technology: Surface Mount; Code_JEDEC: MS-004; ComponentLink1Description: Manufacturer URL; ComponentLink1URL: http://www.ti.com/; ComponentLink2Description: Datasheet; ComponentLink2URL: http://www.ti.com/lit/ds/symlink/op27.pdf; ComponentLink3Description: Package Specification; ComponentLink3URL: http://www.ti.com/litv/pdf/mlcc006d
footprint TI-FK20_N (Leadless Chip Carrier, 20-Leads, Body 8.9x8.9mm, Pitch 1.27mm, IPC Medium Density)
footprint TI-FK20_L (Leadless Chip Carrier, 20-Leads, Body 8.9x8.9mm, Pitch 1.27mm, IPC High Density)
footprint TI-FK20_M (Leadless Chip Carrier, 20-Leads, Body 8.9x8.9mm, Pitch 1.27mm, IPC Low Density)
part A pins: 2 VIOTRIM (in), 5 IN- (in), 7 IN+ (in), 10 VCC- (power), 15 OUT (out), 17 VCC+ (power), 20 VIOTRIM (in)
part B pins: 1 NC, 3 NC, 4 NC, 6 NC, 8 NC, 9 NC, 11 NC, 12 NC, 13 NC, 14 NC, 16 NC, 18 NC, 19 NC

## OP27AJGB
designator U?
Low-Noise Precision High-Speed Operational Amplifier, 8 to 44 V, -55 to 125 degC, 8-pin DIP (JG8); Manufacturer: Texas Instruments; PartNumber: OP27AJGB; CMRR(Min)(dB): 114; GBW(Typ)(MHz): 8; IIB(Max)(pA): 40000; Number of Channels: 1; Offset Drift(Typ)(uV/C): 0.2; Packing: TUBE; Rating: Military; Slew Rate(Typ)(V/us): 2.8; Sub Family: High Supply Voltage Amplifier (>=30V), Low Noise Amp (<=10nV/rtHz), Low Offset Voltage Amplifier (<=500uV), Precision Amplifier; Total Supply Voltage(Max)(+5V is 5, +/-5V is 10): 44; Vio (25C)(Max)(mV): 0.025; DatasheetVersion: SLOS100E; PackageVersion: 4040107/C, 08/1996; PackageReference: JG8; PackageDescription: 8-Pin Ceramic, Glass In-Line, Body 9.58 x 6.665 mm, Pitch 2.54 mm; Total Supply Voltage(Min)(+5V is 5, +/-5V is 10): 8; Mounting Technology: Through Hole; ComponentLink1Description: Manufacturer URL; ComponentLink1URL: http://www.ti.com/; ComponentLink2Description: Datasheet; ComponentLink2URL: http://www.ti.com/lit/ds/symlink/op27.pdf; ComponentLink3Description: Package Specification; ComponentLink3URL: http://www.ti.com/litv/pdf/mcer001a
footprint TI-JG8 (DIP, 8-Leads, Body 10.15x7.1mm, Pitch 2.54mm)
pins: 1 VIOTRIM (in), 2 IN- (in), 3 IN+ (in), 4 VCC- (power), 5 NC, 6 OUT (out), 7 VCC+ (power), 8 VIOTRIM (in)

## OP27CJGB
designator U?
Low-Noise Precision High-Speed Operational Amplifier, 8 to 44 V, -55 to 125 degC, 8-pin DIP (JG8); Manufacturer: Texas Instruments; PartNumber: OP27CJGB; CMRR(Min)(dB): 100; GBW(Typ)(MHz): 8; IIB(Max)(pA): 80000; Number of Channels: 1; Offset Drift(Typ)(uV/C): 0.4; Packing: TUBE; Rating: Military; Slew Rate(Typ)(V/us): 2.8; Sub Family: High Supply Voltage Amplifier (>=30V), Low Noise Amp (<=10nV/rtHz), Low Offset Voltage Amplifier (<=500uV), Precision Amplifier; Total Supply Voltage(Max)(+5V is 5, +/-5V is 10): 44; Vio (25C)(Max)(mV): 0.1; DatasheetVersion: SLOS100E; PackageVersion: 4040107/C, 08/1996; PackageReference: JG8; PackageDescription: 8-Pin Ceramic, Glass In-Line, Body 9.58 x 6.665 mm, Pitch 2.54 mm; Total Supply Voltage(Min)(+5V is 5, +/-5V is 10): 8; Mounting Technology: Through Hole; ComponentLink1Description: Manufacturer URL; ComponentLink1URL: http://www.ti.com/; ComponentLink2Description: Datasheet; ComponentLink2URL: http://www.ti.com/lit/ds/symlink/op27.pdf; ComponentLink3Description: Package Specification; ComponentLink3URL: http://www.ti.com/litv/pdf/mcer001a
footprint TI-JG8 (DIP, 8-Leads, Body 10.15x7.1mm, Pitch 2.54mm)
pins: 1 VIOTRIM (in), 2 IN- (in), 3 IN+ (in), 4 VCC- (power), 5 NC, 6 OUT (out), 7 VCC+ (power), 8 VIOTRIM (in)

## OPA27GP
designator U?
Ultra-Low Noise Precision Operational Amplifier, 8 to 44 V, -40 to 85 degC, 8-pin DIP (P8), Green (RoHS & no Sb/Br); Manufacturer: Texas Instruments; PartNumber: OPA27GP; CMRR(Min)(dB): 100; GBW(Typ)(MHz): 8; IIB(Max)(pA): 80000; Iq per channel(Max)(mA): 5.7; Number of Channels: 1; Offset Drift(Typ)(uV/C): 0.4; Packing: TUBE; Rating: Catalog; Slew Rate(Typ)(V/us): 1.9; Sub Family: High Supply Voltage Amplifier (>=30V), Low Noise Amp (<=10nV/rtHz), Low Offset Voltage Amplifier (<=500uV), Precision Amplifier; Total Supply Voltage(Max)(+5V is 5, +/-5V is 10): 44; Vio (25C)(Max)(mV): 0.1; DatasheetVersion: SBOS135C; PackageVersion: 4040082/E, 04/2010; PackageReference: P8; PackageDescription: 8-Pin Plastic In-Line, Body 9.59 x 6.35 mm, Pitch 2.54 mm; Supplier 1: Digi-Key; Supplier Part Number 1: OPA27GP-ND; Supplier 2: Farnell; Supplier Part Number 2: 1470386; Supplier 3: Newark; Supplier Part Number 3: 74K3903; Supplier 4: Mouser; Supplier Part Number 4: 595-OPA27GP; Eco-Plan: Green (RoHS & no Sb/Br); Total Supply Voltage(Min)(+5V is 5, +/-5V is 10): 8; Mounting Technology: Through Hole; Code_JEDEC: MS-001; ComponentLink1Description: Manufacturer URL; ComponentLink1URL: http://www.ti.com/; ComponentLink2Description: Datasheet; ComponentLink2URL: http://www.ti.com/lit/ds/symlink/opa27.pdf; ComponentLink3Description: Package Specification; ComponentLink3URL: http://www.ti.com/litv/pdf/mpdi001b
footprint TI-P8 (DIP, 8-Leads, Body 9.59x6.35mm, Pitch 2.54mm)
pins: 1 OFFSET TRIM (in), 2 IN- (in), 3 IN+ (in), 4 VCC- (power), 5 NC, 6 OUT (out), 7 VCC+ (power), 8 OFFSET TRIM (in)

## OPA27GPG4
designator U?
Ultra-Low Noise Precision Operational Amplifier, 8 to 44 V, -40 to 85 degC, 8-pin DIP (P8), Green (RoHS & no Sb/Br); Manufacturer: Texas Instruments; PartNumber: OPA27GPG4; CMRR(Min)(dB): 100; GBW(Typ)(MHz): 8; IIB(Max)(pA): 80000; Iq per channel(Max)(mA): 5.7; Number of Channels: 1; Offset Drift(Typ)(uV/C): 0.4; Packing: TUBE; Rating: Catalog; Slew Rate(Typ)(V/us): 1.9; Sub Family: High Supply Voltage Amplifier (>=30V), Low Noise Amp (<=10nV/rtHz), Low Offset Voltage Amplifier (<=500uV), Precision Amplifier; Total Supply Voltage(Max)(+5V is 5, +/-5V is 10): 44; Vio (25C)(Max)(mV): 0.1; DatasheetVersion: SBOS135C; PackageVersion: 4040082/E, 04/2010; PackageReference: P8; PackageDescription: 8-Pin Plastic In-Line, Body 9.59 x 6.35 mm, Pitch 2.54 mm; Supplier 1: Digi-Key; Supplier Part Number 1: OPA27GPG4-ND; Supplier 2: Newark; Supplier Part Number 2: 30M1558; Supplier 3: Mouser; Supplier Part Number 3: 595-OPA27GPG4; Eco-Plan: Green (RoHS & no Sb/Br); Total Supply Voltage(Min)(+5V is 5, +/-5V is 10): 8; Mounting Technology: Through Hole; Code_JEDEC: MS-001; ComponentLink1Description: Manufacturer URL; ComponentLink1URL: http://www.ti.com/; ComponentLink2Description: Datasheet; ComponentLink2URL: http://www.ti.com/lit/ds/symlink/opa27.pdf; ComponentLink3Description: Package Specification; ComponentLink3URL: http://www.ti.com/litv/pdf/mpdi001b
footprint TI-P8 (DIP, 8-Leads, Body 9.59x6.35mm, Pitch 2.54mm)
pins: 1 OFFSET TRIM (in), 2 IN- (in), 3 IN+ (in), 4 VCC- (power), 5 NC, 6 OUT (out), 7 VCC+ (power), 8 OFFSET TRIM (in)

## OPA27GU
designator U?
Ultra-Low Noise Precision Operational Amplifier, 8 to 44 V, -40 to 85 degC, 8-pin SOIC (D8), Green (RoHS & no Sb/Br); Manufacturer: Texas Instruments; PartNumber: OPA27GU; CMRR(Min)(dB): 100; GBW(Typ)(MHz): 8; IIB(Max)(pA): 80000; Iq per channel(Max)(mA): 5.7; Number of Channels: 1; Offset Drift(Typ)(uV/C): 0.4; Packing: TUBE; Rating: Catalog; Slew Rate(Typ)(V/us): 1.9; Sub Family: High Supply Voltage Amplifier (>=30V), Low Noise Amp (<=10nV/rtHz), Low Offset Voltage Amplifier (<=500uV), Precision Amplifier; Total Supply Voltage(Max)(+5V is 5, +/-5V is 10): 44; Vio (25C)(Max)(mV): 0.1; DatasheetVersion: SBOS135C; PackageVersion: 4040047-3/M, 06/2011; PackageReference: D8; PackageDescription: 8-Pin Plastic Small Outline, Body 4.9 x 3.9 mm, Pitch 1.27 mm; Supplier 1: Digi-Key; Supplier Part Number 1: OPA27GU-ND; Supplier 2: Farnell; Supplier Part Number 2: 1703211; Supplier 3: Newark; Supplier Part Number 3: 80K6023; Supplier 4: Mouser; Supplier Part Number 4: 595-OPA27GU; Eco-Plan: Green (RoHS & no Sb/Br); Total Supply Voltage(Min)(+5V is 5, +/-5V is 10): 8; Mounting Technology: Surface Mount; Code_JEDEC: MS-012; ComponentLink1Description: Manufacturer URL; ComponentLink1URL: http://www.ti.com/; ComponentLink2Description: Datasheet; ComponentLink2URL: http://www.ti.com/lit/ds/symlink/opa27.pdf; ComponentLink3Description: Package Specification; ComponentLink3URL: http://www.ti.com/litv/pdf/msoi002j
footprint TI-D8_N (SOIC, 8-Leads, Body 4.9x3.9mm, Pitch 1.27mm, IPC Medium Density)
footprint TI-D8_L (SOIC, 8-Leads, Body 4.9x3.9mm, Pitch 1.27mm, IPC High Density)
footprint TI-D8_M (SOIC, 8-Leads, Body 4.9x3.9mm, Pitch 1.27mm, IPC Low Density)
pins: 1 OFFSET TRIM (in), 2 IN- (in), 3 IN+ (in), 4 VCC- (power), 5 NC, 6 OUT (out), 7 VCC+ (power), 8 OFFSET TRIM (in)

## OPA27GU/2K5
designator U?
Ultra-Low Noise Precision Operational Amplifier, 8 to 44 V, -40 to 85 degC, 8-pin SOIC (D8), Green (RoHS & no Sb/Br); Manufacturer: Texas Instruments; PartNumber: OPA27GU/2K5; CMRR(Min)(dB): 100; GBW(Typ)(MHz): 8; IIB(Max)(pA): 80000; Iq per channel(Max)(mA): 5.7; Number of Channels: 1; Offset Drift(Typ)(uV/C): 0.4; Packing: LARGE T&R; Rating: Catalog; Slew Rate(Typ)(V/us): 1.9; Sub Family: High Supply Voltage Amplifier (>=30V), Low Noise Amp (<=10nV/rtHz), Low Offset Voltage Amplifier (<=500uV), Precision Amplifier; Total Supply Voltage(Max)(+5V is 5, +/-5V is 10): 44; Vio (25C)(Max)(mV): 0.1; DatasheetVersion: SBOS135C; PackageVersion: 4040047-3/M, 06/2011; PackageReference: D8; PackageDescription: 8-Pin Plastic Small Outline, Body 4.9 x 3.9 mm, Pitch 1.27 mm; Supplier 1: Digi-Key; Supplier Part Number 1: 296-31706-2-ND; Supplier 2: Digi-Key; Supplier Part Number 2: 296-31706-1-ND; Supplier 3: Digi-Key; Supplier Part Number 3: 296-31706-6-ND; Supplier 4: Newark; Supplier Part Number 4: 75C4802; Supplier 5: Mouser; Supplier Part Number 5: 595-OPA27GU/2K5; Eco-Plan: Green (RoHS & no Sb/Br); Total Supply Voltage(Min)(+5V is 5, +/-5V is 10): 8; Mounting Technology: Surface Mount; Code_JEDEC: MS-012; ComponentLink1Description: Manufacturer URL; ComponentLink1URL: http://www.ti.com/; ComponentLink2Description: Datasheet; ComponentLink2URL: http://www.ti.com/lit/ds/symlink/opa27.pdf; ComponentLink3Description: Package Specification; ComponentLink3URL: http://www.ti.com/litv/pdf/msoi002j
footprint TI-D8_N (SOIC, 8-Leads, Body 4.9x3.9mm, Pitch 1.27mm, IPC Medium Density)
footprint TI-D8_L (SOIC, 8-Leads, Body 4.9x3.9mm, Pitch 1.27mm, IPC High Density)
footprint TI-D8_M (SOIC, 8-Leads, Body 4.9x3.9mm, Pitch 1.27mm, IPC Low Density)
pins: 1 OFFSET TRIM (in), 2 IN- (in), 3 IN+ (in), 4 VCC- (power), 5 NC, 6 OUT (out), 7 VCC+ (power), 8 OFFSET TRIM (in)

## OPA27GU/2K5E4
designator U?
Ultra-Low Noise Precision Operational Amplifier, 8 to 44 V, -40 to 85 degC, 8-pin SOIC (D8), Green (RoHS & no Sb/Br); Manufacturer: Texas Instruments; PartNumber: OPA27GU/2K5E4; CMRR(Min)(dB): 100; GBW(Typ)(MHz): 8; IIB(Max)(pA): 80000; Iq per channel(Max)(mA): 5.7; Number of Channels: 1; Offset Drift(Typ)(uV/C): 0.4; Packing: LARGE T&R; Rating: Catalog; Slew Rate(Typ)(V/us): 1.9; Sub Family: High Supply Voltage Amplifier (>=30V), Low Noise Amp (<=10nV/rtHz), Low Offset Voltage Amplifier (<=500uV), Precision Amplifier; Total Supply Voltage(Max)(+5V is 5, +/-5V is 10): 44; Vio (25C)(Max)(mV): 0.1; DatasheetVersion: SBOS135C; PackageVersion: 4040047-3/M, 06/2011; PackageReference: D8; PackageDescription: 8-Pin Plastic Small Outline, Body 4.9 x 3.9 mm, Pitch 1.27 mm; Supplier 1: Digi-Key; Supplier Part Number 1: OPA27GU/2K5E4-ND; Supplier 2: Newark; Supplier Part Number 2: 61K1345; Supplier 3: Mouser; Supplier Part Number 3: 595-OPA27GU/2K5E4; Eco-Plan: Green (RoHS & no Sb/Br); Total Supply Voltage(Min)(+5V is 5, +/-5V is 10): 8; Mounting Technology: Surface Mount; Code_JEDEC: MS-012; ComponentLink1Description: Manufacturer URL; ComponentLink1URL: http://www.ti.com/; ComponentLink2Description: Datasheet; ComponentLink2URL: http://www.ti.com/lit/ds/symlink/opa27.pdf; ComponentLink3Description: Package Specification; ComponentLink3URL: http://www.ti.com/litv/pdf/msoi002j
footprint TI-D8_N (SOIC, 8-Leads, Body 4.9x3.9mm, Pitch 1.27mm, IPC Medium Density)
footprint TI-D8_L (SOIC, 8-Leads, Body 4.9x3.9mm, Pitch 1.27mm, IPC High Density)
footprint TI-D8_M (SOIC, 8-Leads, Body 4.9x3.9mm, Pitch 1.27mm, IPC Low Density)
pins: 1 OFFSET TRIM (in), 2 IN- (in), 3 IN+ (in), 4 VCC- (power), 5 NC, 6 OUT (out), 7 VCC+ (power), 8 OFFSET TRIM (in)

## OPA27GUE4
designator U?
Ultra-Low Noise Precision Operational Amplifier, 8 to 44 V, -40 to 85 degC, 8-pin SOIC (D8), Green (RoHS & no Sb/Br); Manufacturer: Texas Instruments; PartNumber: OPA27GUE4; CMRR(Min)(dB): 100; GBW(Typ)(MHz): 8; IIB(Max)(pA): 80000; Iq per channel(Max)(mA): 5.7; Number of Channels: 1; Offset Drift(Typ)(uV/C): 0.4; Packing: TUBE; Rating: Catalog; Slew Rate(Typ)(V/us): 1.9; Sub Family: High Supply Voltage Amplifier (>=30V), Low Noise Amp (<=10nV/rtHz), Low Offset Voltage Amplifier (<=500uV), Precision Amplifier; Total Supply Voltage(Max)(+5V is 5, +/-5V is 10): 44; Vio (25C)(Max)(mV): 0.1; DatasheetVersion: SBOS135C; PackageVersion: 4040047-3/M, 06/2011; PackageReference: D8; PackageDescription: 8-Pin Plastic Small Outline, Body 4.9 x 3.9 mm, Pitch 1.27 mm; Supplier 1: Digi-Key; Supplier Part Number 1: OPA27GUE4-ND; Supplier 2: Farnell; Supplier Part Number 2: 1207111; Supplier 3: Newark; Supplier Part Number 3: 97K6819; Supplier 4: Newark; Supplier Part Number 4: 61K1346; Supplier 5: Mouser; Supplier Part Number 5: 595-OPA27GUE4; Eco-Plan: Green (RoHS & no Sb/Br); Total Supply Voltage(Min)(+5V is 5, +/-5V is 10): 8; Mounting Technology: Surface Mount; Code_JEDEC: MS-012; ComponentLink1Description: Manufacturer URL; ComponentLink1URL: http://www.ti.com/; ComponentLink2Description: Datasheet; ComponentLink2URL: http://www.ti.com/lit/ds/symlink/opa27.pdf; ComponentLink3Description: Package Specification; ComponentLink3URL: http://www.ti.com/litv/pdf/msoi002j
footprint TI-D8_N (SOIC, 8-Leads, Body 4.9x3.9mm, Pitch 1.27mm, IPC Medium Density)
footprint TI-D8_L (SOIC, 8-Leads, Body 4.9x3.9mm, Pitch 1.27mm, IPC High Density)
footprint TI-D8_M (SOIC, 8-Leads, Body 4.9x3.9mm, Pitch 1.27mm, IPC Low Density)
pins: 1 OFFSET TRIM (in), 2 IN- (in), 3 IN+ (in), 4 VCC- (power), 5 NC, 6 OUT (out), 7 VCC+ (power), 8 OFFSET TRIM (in)

## OPA27GUG4
designator U?
Ultra-Low Noise Precision Operational Amplifier, 8 to 44 V, -40 to 85 degC, 8-pin SOIC (D8), Green (RoHS & no Sb/Br); Manufacturer: Texas Instruments; PartNumber: OPA27GUG4; CMRR(Min)(dB): 100; GBW(Typ)(MHz): 8; IIB(Max)(pA): 80000; Iq per channel(Max)(mA): 5.7; Number of Channels: 1; Offset Drift(Typ)(uV/C): 0.4; Packing: TUBE; Rating: Catalog; Slew Rate(Typ)(V/us): 1.9; Sub Family: High Supply Voltage Amplifier (>=30V), Low Noise Amp (<=10nV/rtHz), Low Offset Voltage Amplifier (<=500uV), Precision Amplifier; Total Supply Voltage(Max)(+5V is 5, +/-5V is 10): 44; Vio (25C)(Max)(mV): 0.1; DatasheetVersion: SBOS135C; PackageVersion: 4040047-3/M, 06/2011; PackageReference: D8; PackageDescription: 8-Pin Plastic Small Outline, Body 4.9 x 3.9 mm, Pitch 1.27 mm; Supplier 1: Digi-Key; Supplier Part Number 1: OPA27GUG4-ND; Supplier 2: Newark; Supplier Part Number 2: 30M1559; Supplier 3: Mouser; Supplier Part Number 3: 595-OPA27GUG4; Eco-Plan: Green (RoHS & no Sb/Br); Total Supply Voltage(Min)(+5V is 5, +/-5V is 10): 8; Mounting Technology: Surface Mount; Code_JEDEC: MS-012; ComponentLink1Description: Manufacturer URL; ComponentLink1URL: http://www.ti.com/; ComponentLink2Description: Datasheet; ComponentLink2URL: http://www.ti.com/lit/ds/symlink/opa27.pdf; ComponentLink3Description: Package Specification; ComponentLink3URL: http://www.ti.com/litv/pdf/msoi002j
footprint TI-D8_N (SOIC, 8-Leads, Body 4.9x3.9mm, Pitch 1.27mm, IPC Medium Density)
footprint TI-D8_L (SOIC, 8-Leads, Body 4.9x3.9mm, Pitch 1.27mm, IPC High Density)
footprint TI-D8_M (SOIC, 8-Leads, Body 4.9x3.9mm, Pitch 1.27mm, IPC Low Density)
pins: 1 OFFSET TRIM (in), 2 IN- (in), 3 IN+ (in), 4 VCC- (power), 5 NC, 6 OUT (out), 7 VCC+ (power), 8 OFFSET TRIM (in)

## OPA121KU
designator U?
Low Cost Precision Difet Operational Amplifier, 10 to 36 V, 0 to 70 degC, 8-pin SOIC (D8), Green (RoHS & no Sb/Br); Manufacturer: Texas Instruments; PartNumber: OPA121KU; CMRR(Min)(dB): 82; GBW(Typ)(MHz): 2; IIB(Max)(pA): 10; Iq per channel(Max)(mA): 4.5; Number of Channels: 1; Offset Drift(Typ)(uV/C): 3; Packing: TUBE; Rating: Catalog; Sub Family: High Supply Voltage Amplifier (>=30V), Low Input Bias Current Amp (<=10pA), Low Noise Amp (<=10nV/rtHz), Precision Amplifier; Total Supply Voltage(Max)(+5V is 5, +/-5V is 10): 36; DatasheetVersion: SBOS139; PackageVersion: 4040047-3/M, 06/2011; PackageReference: D8; PackageDescription: 8-Pin Plastic Small Outline, Body 4.9 x 3.9 mm, Pitch 1.27 mm; Supplier 1: Digi-Key; Supplier Part Number 1: OPA121KU-ND; Supplier 2: Farnell; Supplier Part Number 2: 1459546; Supplier 3: Newark; Supplier Part Number 3: 75C4581; Supplier 4: Mouser; Supplier Part Number 4: 595-OPA121KU; Eco-Plan: Green (RoHS & no Sb/Br); Slew Rate(Typ)(V/us): 2; Total Supply Voltage(Min)(+5V is 5, +/-5V is 10): 10; Vio (25C)(Max)(mV): 3; Mounting Technology: Surface Mount; Code_JEDEC: MS-012; ComponentLink1Description: Manufacturer URL; ComponentLink1URL: http://www.ti.com/; ComponentLink2Description: Datasheet; ComponentLink2URL: http://www.ti.com/lit/ds/symlink/opa121.pdf; ComponentLink3Description: Package Specification; ComponentLink3URL: http://www.ti.com/litv/pdf/msoi002j
footprint TI-D8_N (SOIC, 8-Leads, Body 4.9x3.9mm, Pitch 1.27mm, IPC Medium Density)
footprint TI-D8_L (SOIC, 8-Leads, Body 4.9x3.9mm, Pitch 1.27mm, IPC High Density)
footprint TI-D8_M (SOIC, 8-Leads, Body 4.9x3.9mm, Pitch 1.27mm, IPC Low Density)
pins: 1 OFFSET TRIM (in), 2 IN- (in), 3 IN+ (in), 4 VCC- (power), 5 OFFSET TRIM (in), 6 OUT (out), 7 VCC+ (power), 8 SUBSTRATE

## OPA121KU/2K5
designator U?
Low Cost Precision Difet Operational Amplifier, 10 to 36 V, 0 to 70 degC, 8-pin SOIC (D8), Green (RoHS & no Sb/Br); Manufacturer: Texas Instruments; PartNumber: OPA121KU/2K5; CMRR(Min)(dB): 82; GBW(Typ)(MHz): 2; IIB(Max)(pA): 10; Iq per channel(Max)(mA): 4.5; Number of Channels: 1; Offset Drift(Typ)(uV/C): 3; Packing: LARGE T&R; Rating: Catalog; Sub Family: High Supply Voltage Amplifier (>=30V), Low Input Bias Current Amp (<=10pA), Low Noise Amp (<=10nV/rtHz), Precision Amplifier; Total Supply Voltage(Max)(+5V is 5, +/-5V is 10): 36; DatasheetVersion: SBOS139; PackageVersion: 4040047-3/M, 06/2011; PackageReference: D8; PackageDescription: 8-Pin Plastic Small Outline, Body 4.9 x 3.9 mm, Pitch 1.27 mm; Supplier 1: Digi-Key; Supplier Part Number 1: 296-29274-2-ND; Supplier 2: Digi-Key; Supplier Part Number 2: 296-29274-1-ND; Supplier 3: Digi-Key; Supplier Part Number 3: 296-29274-6-ND; Supplier 4: Mouser; Supplier Part Number 4: 595-OPA121KU/2K5; Eco-Plan: Green (RoHS & no Sb/Br); Slew Rate(Typ)(V/us): 2; Total Supply Voltage(Min)(+5V is 5, +/-5V is 10): 10; Vio (25C)(Max)(mV): 3; Mounting Technology: Surface Mount; Code_JEDEC: MS-012; ComponentLink1Description: Manufacturer URL; ComponentLink1URL: http://www.ti.com/; ComponentLink2Description: Datasheet; ComponentLink2URL: http://www.ti.com/lit/ds/symlink/opa121.pdf; ComponentLink3Description: Package Specification; ComponentLink3URL: http://www.ti.com/litv/pdf/msoi002j
footprint TI-D8_N (SOIC, 8-Leads, Body 4.9x3.9mm, Pitch 1.27mm, IPC Medium Density)
footprint TI-D8_L (SOIC, 8-Leads, Body 4.9x3.9mm, Pitch 1.27mm, IPC High Density)
footprint TI-D8_M (SOIC, 8-Leads, Body 4.9x3.9mm, Pitch 1.27mm, IPC Low Density)
pins: 1 OFFSET TRIM (in), 2 IN- (in), 3 IN+ (in), 4 VCC- (power), 5 OFFSET TRIM (in), 6 OUT (out), 7 VCC+ (power), 8 SUBSTRATE

## OPA121KU/2K5G4
designator U?
Low Cost Precision Difet Operational Amplifier, 10 to 36 V, 0 to 70 degC, 8-pin SOIC (D8), Green (RoHS & no Sb/Br); Manufacturer: Texas Instruments; PartNumber: OPA121KU/2K5G4; CMRR(Min)(dB): 82; GBW(Typ)(MHz): 2; IIB(Max)(pA): 10; Iq per channel(Max)(mA): 4.5; Number of Channels: 1; Offset Drift(Typ)(uV/C): 3; Packing: LARGE T&R; Rating: Catalog; Sub Family: High Supply Voltage Amplifier (>=30V), Low Input Bias Current Amp (<=10pA), Low Noise Amp (<=10nV/rtHz), Precision Amplifier; Total Supply Voltage(Max)(+5V is 5, +/-5V is 10): 36; DatasheetVersion: SBOS139; PackageVersion: 4040047-3/M, 06/2011; PackageReference: D8; PackageDescription: 8-Pin Plastic Small Outline, Body 4.9 x 3.9 mm, Pitch 1.27 mm; Supplier 1: Digi-Key; Supplier Part Number 1: OPA121KU/2K5G4-ND; Supplier 2: Mouser; Supplier Part Number 2: 595-OPA121KU/2K5G4; Eco-Plan: Green (RoHS & no Sb/Br); Slew Rate(Typ)(V/us): 2; Total Supply Voltage(Min)(+5V is 5, +/-5V is 10): 10; Vio (25C)(Max)(mV): 3; Mounting Technology: Surface Mount; Code_JEDEC: MS-012; ComponentLink1Description: Manufacturer URL; ComponentLink1URL: http://www.ti.com/; ComponentLink2Description: Datasheet; ComponentLink2URL: http://www.ti.com/lit/ds/symlink/opa121.pdf; ComponentLink3Description: Package Specification; ComponentLink3URL: http://www.ti.com/litv/pdf/msoi002j
footprint TI-D8_N (SOIC, 8-Leads, Body 4.9x3.9mm, Pitch 1.27mm, IPC Medium Density)
footprint TI-D8_L (SOIC, 8-Leads, Body 4.9x3.9mm, Pitch 1.27mm, IPC High Density)
footprint TI-D8_M (SOIC, 8-Leads, Body 4.9x3.9mm, Pitch 1.27mm, IPC Low Density)
pins: 1 OFFSET TRIM (in), 2 IN- (in), 3 IN+ (in), 4 VCC- (power), 5 OFFSET TRIM (in), 6 OUT (out), 7 VCC+ (power), 8 SUBSTRATE